# Altium footprint library Ahrist_Library.PcbLib: 172 footprints (part 3 of 11)
Each footprint in its own frame and in the unit in brackets; x right, y up, seen from the top. Pads: shape width x height; smd on the part's side, far side on the other; paste and mask are expansions set on the pad; w line width, h text height; cw(c..) or ccw(c..) is an arc to the next point about the centre after c.
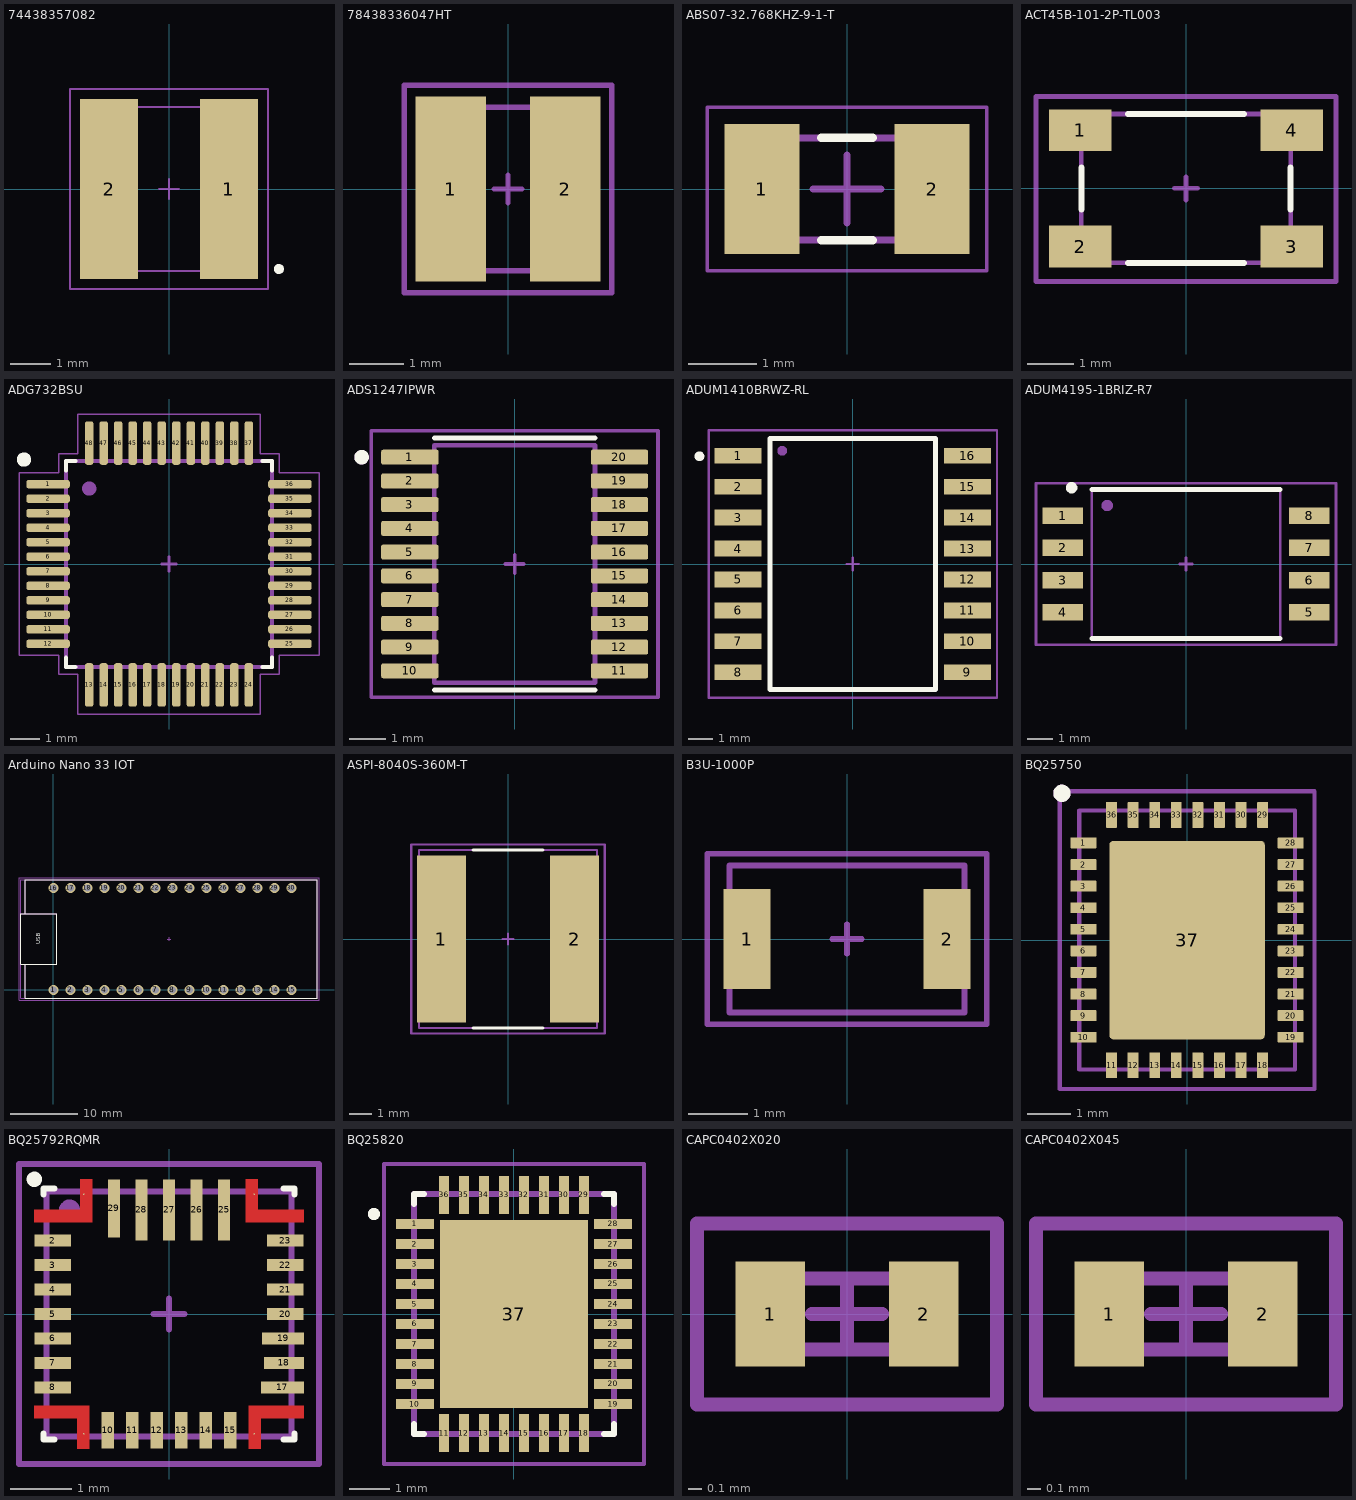
[diagram p2: the footprints below, top view; thin cyan lines are the x and y axes]

## 74438357082 [mm] "8.2 µH Shielded Molded Inductor 2.8 A 86mOhm Max 1616 (4040 Metric)"
pads (2):
  rect 1.45x4.5 smd mask+0.075: 1(1.5,0) 2(-1.5,0)
Top Overlay:
  circle w0.15: c2.75,-2 r0.05
Top Courtyard:
  lines w0.05: -2.475,-2.5 -1.675,-2.5 2.475,-2.5 2.475,-2.05 2.475,2.5 1.675,2.5 -2.475,2.5 -2.475,2.05 -2.475,-2.5
Top Assembly:
  lines w0.05: -2.05,-2.05 -0.55,-2.05 0.2,-2.05 2.05,-2.05 2.05,1.3 2.05,2.05 0.55,2.05 -0.2,2.05 -2.05,2.05 -2.05,-1.3 -2.05,-2.05
Top Designator:
  text ".Designator" at -0.599,-0.115 h1.52
Top Component Outline:
  lines w0.05: -2.05,-2.05 -0.55,-2.05 0.2,-2.05 2.05,-2.05 2.05,1.3 2.05,2.05 0.55,2.05 -0.2,2.05 -2.05,2.05 -2.05,-1.3 -2.05,-2.05
Top Component Center:
  lines w0.05: -0.25,0 0,0 ; 0,-0.25 0,0 ; 0,0.25 0,0 ; 0.25,0 0,0
3D body "Download_WE-MAPI-4030_stp_rev1.stp": height 3.15, standoff 0.05, extent -2.05,-2.05 2.05,2.05

## 78438336047HT [mm] "1212 Shielded Inductor"
pads (2):
  rect 1.3x3.4 smd mask+0.07: 1(-1.05,0) 2(1.05,0)
Top Courtyard:
  lines w0.1: -1.575,1.9 1.9,1.9 1.9,1.55 1.9,-1.9 1.55,-1.9 ; -1.55,1.9 -1.9,1.9 -1.9,-1.55 -1.9,-1.9 1.575,-1.9
Top Assembly:
  lines w0.1: -1.5,-1.5 1.5,-1.5 1.5,1.5 -1.5,1.5 -1.5,-1.5
Top Designator:
  text ".Designator" at -0.59,-0.14 h0.6
Top Component Outline:
  lines w0.1: -1.5,-1.5 1.5,-1.5 1.5,1.5 -1.5,1.5 -1.5,-1.5
Top Component Center:
  lines w0.1: 0,-0.25 0,0 ; 0,0 0,0.25 0,0 ; 0,0 0.25,0 -0.25,0 0,0
3D body "STP_WE-MAIA-3020HT (rev1).stp": height 2, standoff 0, extent -1.5,-1.5 1.5,1.5

## ABS07-32.768KHZ-9-1-T [mm] "32.768 kHz ±10ppm Crystal 9pF 70 kOhms 2-SMD, No Lead"
pads (2):
  rect 1.1x1.9 smd mask+0.075: 1(-1.25,0) 2(1.25,0)
Top Overlay:
  lines w0.127: -0.38,-0.75 0.38,-0.75 ; -0.38,0.75 0.38,0.75
Top Courtyard:
  lines w0.05: -2.05,-1.2 2.05,-1.2 2.05,1.2 -2.05,1.2 -2.05,-1.2
Top Assembly:
  lines w0.1: -1.6,-0.75 1.6,-0.75 1.6,0.75 -1.6,0.75 -1.6,-0.75
Top Component Center:
  lines w0.1: 0,-0.5 0,0 ; 0,0 0,0.5 0,0 ; 0,0 0.5,0 0,0 ; 0,0 -0.5,0 0,0
3D body "step_temp.STEP": height 0.89, standoff 0, extent -1.6,-0.749 1.6,0.749

## ACT45B-101-2P-TL003 [mm] "Common Mode Choke 4.50mm x 3.20mm"
pads (4):
  rect 1.35x0.9 smd mask+0.075: 1(-2.275,1.25) 2(-2.275,-1.25) 3(2.275,-1.25) 4(2.275,1.25)
Top Overlay:
  lines w0.127: -2.25,-0.45 -2.25,0.45 ; -1.25,-1.6 1.25,-1.6 ; -1.25,1.6 1.25,1.6 ; 2.25,-0.45 2.25,0.45
Top Courtyard:
  lines w0.1: -3.225,-2 3.225,-2 3.225,1.975 -3.225,1.975 -3.225,-2
Top Assembly:
  lines w0.1: -2.25,-1.6 2.25,-1.6 2.25,1.6 -2.25,1.6 -2.25,-1.6
Top Designator:
  text ".Designator" at -0.475,-0.088 h0.6
Top Component Outline:
  lines w0.1: -2.25,-1.6 2.25,-1.6 2.25,1.6 -2.25,1.6 -2.25,0.025 -2.25,-1.6
Top Component Center:
  lines w0.1: 0,-0.25 0,0 ; 0,0 0,0.25 0,0 ; 0,0 0.25,0 -0.25,0 0,0
3D body "ACT45B-101-2P-TL003--3DModel-STEP-56544.STEP": height 3, standoff 0, extent -2.25,-1.6 2.25,1.6

## ADG732BSU [mm] "TQFP48"
pads (48):
  rrect50% 1.5x0.28 smd mask+0.05: 1(-4.17,2.75) 2(-4.17,2.25) 3(-4.17,1.75) 4(-4.17,1.25) 5(-4.17,0.75) 6(-4.17,0.25) 7(-4.17,-0.25) 8(-4.17,-0.75) 9(-4.17,-1.25) 10(-4.17,-1.75) 11(-4.17,-2.25) 12(-4.17,-2.75) 25(4.17,-2.75) 26(4.17,-2.25) 27(4.17,-1.75) 28(4.17,-1.25) 29(4.17,-0.75) 30(4.17,-0.25) 31(4.17,0.25) 32(4.17,0.75) 33(4.17,1.25) 34(4.17,1.75) 35(4.17,2.25) 36(4.17,2.75)
  rrect50% 0.28x1.5 smd mask+0.05: 13(-2.75,-4.17) 14(-2.25,-4.17) 15(-1.75,-4.17) 16(-1.25,-4.17) 17(-0.75,-4.17) 18(-0.25,-4.17) 19(0.25,-4.17) 20(0.75,-4.17) 21(1.25,-4.17) 22(1.75,-4.17) 23(2.25,-4.17) 24(2.75,-4.17) 37(2.75,4.17) 38(2.25,4.17) 39(1.75,4.17) 40(1.25,4.17) 41(0.75,4.17) 42(0.25,4.17) 43(-0.25,4.17) 44(-0.75,4.17) 45(-1.25,4.17) 46(-1.75,4.17) 47(-2.25,4.17) 48(-2.75,4.17)
Top Overlay:
  circle w0.25: c-5,3.6 r0.12
  lines w0.127: -3.55,3.226 -3.55,3.55 -3.226,3.55 ; 3.226,-3.55 3.55,-3.55 3.55,-3.226 ; 3.226,3.55 3.55,3.55 3.55,3.226
  lines w0.152: -3.55,-3.226 -3.55,-3.55 -3.226,-3.55
Top Assembly:
  circle w0.25: c-2.75,2.6 r0.12
  lines w0.127: -3.55,-3.55 3.55,-3.55 3.55,3.55 -3.55,3.55 -3.55,-3.55
Top Designator:
  text ".Designator" at -0.54,0.06 h0.6
Top Component Outline:
  lines w0.127: -3.55,-3.55 3.55,-3.55 3.55,3.55 -3.55,3.55 -3.55,-3.55
Mechanical 15:
  lines w0.05: -5.17,-3.14 -3.8,-3.14 -3.8,-3.8 -3.14,-3.8 -3.14,-5.17 3.14,-5.17 3.14,-3.8 3.8,-3.8 3.8,-3.14 5.17,-3.14 5.17,3.14 3.8,3.14 3.8,3.8 3.14,3.8 3.14,5.17 -3.14,5.17 -3.14,3.8 -3.8,3.8 -3.8,3.14 -5.17,3.14 -5.17,-3.14
Top Component Center:
  lines w0.1: 0,-0.25 0,0 ; 0,0 0,0.25 0,0 ; 0,0 0.25,0 -0.25,0 0,0
3D body "step_temp.STEP": height 1.2, standoff 0, extent -4.5,-4.5 4.5,4.5

## ADS1247IPWR [mm] "TSSOP-20"
pads (20):
  rrect25% 1.57x0.41 smd mask+0.05: 1(-2.87,2.925) 2(-2.87,2.275) 3(-2.87,1.625) 4(-2.87,0.975) 5(-2.87,0.325) 6(-2.87,-0.325) 7(-2.87,-0.975) 8(-2.87,-1.625) 9(-2.87,-2.275) 10(-2.87,-2.925) 11(2.87,-2.925) 12(2.87,-2.275) 13(2.87,-1.625) 14(2.87,-0.975) 15(2.87,-0.325) 16(2.87,0.325) 17(2.87,0.975) 18(2.87,1.625) 19(2.87,2.275) 20(2.87,2.925)
Top Overlay:
  circle w0.2: c-4.19,2.925 r0.1
  lines w0.127: -2.2,-3.45 2.2,-3.45 ; -2.2,3.45 2.2,3.45
Top Courtyard:
  lines w0.1: -3.925,-3.65 3.925,-3.65 3.925,3.65 -3.925,3.65 -3.925,-3.65
Top Assembly:
  circle w0.2: c-4.19,2.925 r0.1
  lines w0.127: -2.2,-3.25 -2.2,3.25 2.2,3.25 2.2,-3.25 -2.2,-3.25
Top Designator:
  text ".Designator" at -0.5,-0.138 h0.6
Top Component Outline:
  lines w0.127: -2.2,-3.25 -2.2,3.25 2.2,3.25 2.2,-3.25 -2.2,-3.25
Top Component Center:
  lines w0.1: 0,-0.25 0,0 ; 0,0 0,0.25 0,0 ; 0,0 0.25,0 -0.25,0 0,0
3D body "ADS1247IPWR.STEP": height 1.2, standoff 0, extent -3.2,-3.25 3.2,3.25

## ADUM1410BRWZ-RL [mm] "Digital Isolators QUAD-CHANNEL DIGITAL ISOLATORS"
pads (16):
  rect 1.925x0.65 smd: 1(-4.712,4.445) 2(-4.712,3.175) 3(-4.712,1.905) 4(-4.712,0.635) 5(-4.712,-0.635) 6(-4.712,-1.905) 7(-4.712,-3.175) 8(-4.712,-4.445) 9(4.712,-4.445) 10(4.712,-3.175) 11(4.712,-1.905) 12(4.712,-0.635) 13(4.712,0.635) 14(4.712,1.905) 15(4.712,3.175) 16(4.712,4.445)
Top Overlay:
  circle w0.2: c-6.3,4.425 r0.1
  lines w0.2: -3.4,-5.15 3.4,-5.15 3.4,5.15 -3.4,5.15 -3.4,-5.15
Top Courtyard:
  lines w0.1: -5.925,-5.175 -5.925,5.5 -4.975,5.5 5.925,5.5 5.925,-4.625 ; -5.925,-2.925 -5.925,-3.025 -5.925,-5.5 -4.975,-5.5 5.925,-5.5 5.925,-4.4
Top Assembly:
  circle w0.2: c-2.9,4.65 r0.1
  lines w0.1: -3.4,-5.15 3.4,-5.15 3.4,5.15 -3.4,5.15 -3.4,-5.125
Top Designator:
  text ".Designator" at -0.64,-0.065 h0.6
Top Component Outline:
  lines w0.1: -3.4,-5.15 3.4,-5.15 3.4,5.15 -3.4,5.15 -3.4,-5.125
Top Component Center:
  lines w0.1: 0,-0.25 0,0 ; 0,0 -0.25,0 0.25,0 0,0 ; 0,0 0,0.25 0,0
3D body "ADUM1410BRWZ-RL.stp": height 2.68, standoff 0.02, extent -5.325,-5.25 5.325,5.25

## ADUM4195-1BRIZ-R7 [mm] "Isolator, Error Amplifier IC 8-SOIC-IC"
pads (8):
  rect 1.6x0.65 smd: 1(-4.85,1.905) 2(-4.85,0.635) 3(-4.85,-0.635) 4(-4.85,-1.905) 5(4.85,-1.905) 6(4.85,-0.635) 7(4.85,0.635) 8(4.85,1.905)
Top Overlay:
  circle w0.25: c-4.5,3 r0.1
  lines w0.2: -3.7,-2.925 3.7,-2.925 ; -3.7,2.925 3.7,2.925
Top Courtyard:
  lines w0.1: -5.9,-2.375 -5.9,3.175 -3.925,3.175 ; -5.9,-2.05 -5.9,-3.175 3.925,-3.175 5.9,-3.175 5.9,-2.05 ; -4.625,3.175 5.9,3.175 5.9,-2.5
Top Assembly:
  circle w0.25: c-3.1,2.3 r0.1
  lines w0.1: -3.7,-2.9 3.7,-2.9 3.7,2.9 -3.7,2.9 -3.7,-2.9
Top Designator:
  text ".Designator" at -1.14,-0.14 h0.6
Top Component Outline:
  lines w0.1: -3.7,-2.9 -3.7,2.9 3.7,2.9 3.7,-2.9 -3.7,-2.9
Top Component Center:
  lines w0.1: 0,-0.25 0,0 ; 0,0 0,0.25 0,0 ; 0,0 0.25,0 -0.25,0 0,0
3D body "ADUM4195-1BRIZ.stp": height 2.65, standoff 0, extent -5.155,-2.925 5.155,2.925

## Arduino Nano 33 IOT [mm]
pads (30):
  round 1.508 hole 1: 1(0,0) 2(2.54,0) 3(5.08,0) 4(7.62,0) 5(10.16,0) 6(12.7,0) 7(15.24,0) 8(17.78,0) 9(20.32,0) 10(22.86,0) 11(25.4,0) 12(27.94,0) 13(30.48,0) 14(33.02,0) 15(35.56,0) 16(0,15.23) 17(2.54,15.24) 18(5.08,15.24) 19(7.62,15.24) 20(10.16,15.24) 21(12.7,15.24) 22(15.24,15.24) 23(17.78,15.24) 24(20.32,15.24) 25(22.86,15.24) 26(25.4,15.24) 27(27.94,15.24) 28(30.48,15.24) 29(33.02,15.24) 30(35.56,15.24)
Top Overlay:
  lines w0.1: -4.2,11.375 -4.2,16.5 ; -4.175,3.85 -4.2,3.85 -4.2,-1.275 ; -3.675,-1.275 -4.2,-1.275 ; -3.375,16.5 -4.2,16.5 ; -4.2,-1.275 39.4,-1.275 39.4,-1.175 39.4,16.5 -4.2,16.5 ; -4.9,3.862 0.5,3.862 0.5,11.362 -4.9,11.362 -4.9,3.862
  text "USB" at -1.96,6.81 h0.6
Top Courtyard:
  lines w0.1: -5.15,-1.525 39.675,-1.525 39.675,16.75 -5.15,16.75 -5.15,9.575 -5.15,-1.525
Top Assembly:
  lines w0.1: -4.2,11.375 -4.2,16.5 ; -4.175,3.85 -4.2,3.85 -4.2,-1.275 ; -3.675,-1.275 -4.2,-1.275 ; -3.375,16.5 -4.2,16.5 ; -4.9,3.862 0.5,3.862 ; -4.9,3.862 -4.9,11.362 ; -4.9,3.862 0.5,3.862 ; -4.9,3.862 -4.9,11.362 ; -4.9,3.862 0.5,3.862 ; -4.9,3.862 -4.9,11.362 ; -4.9,11.362 0.5,11.362 ; -4.9,11.362 0.5,11.362 ; -4.9,11.362 0.5,11.362 ; -4.2,-1.275 39.4,-1.275 39.4,-1.175 39.4,16.5 -4.2,16.5 ; 0.5,3.862 0.5,11.362 ; 0.5,3.862 0.5,11.362 ; 0.5,3.862 0.5,11.362
  text ".Designator" at 13.835,8.16 h0.6
  text "USB" at -1.96,6.81 h0.6
Top Designator:
  text ".Designator" at 2.51,-0.289 h1.52
Top Component Outline:
  lines w0.1: -4.891,-1.26 39.401,-1.26 39.401,16.501 -4.89,16.501 -4.89,-1.259
Top Component Center:
  lines w0.1: 17.013,7.612 17.513,7.612 ; 17.263,7.362 17.263,7.862
3D body "PPTC151LFBN-RC--3DModel-STEP-269445.STEP": height 8.51, standoff -3.2, extent -1.5,-1.29 37.108,1.25
3D body "PPTC151LFBN-RC--3DModel-STEP-269445.STEP": height 8.51, standoff -3.2, extent -1.5,13.96 37.108,16.5
3D body "Nano33BLE.step": height 15.34, standoff 2.35, extent -4.89,-1.26 39.41,16.5

## ASPI-8040S-360M-T [mm] "36 µH Shielded Drum Core Inductor"
pads (2):
  rect 2.2x7.5 smd mask+0.05: 1(-3,0) 2(3,0)
Top Overlay:
  lines w0.127: -1.58,-4 1.58,-4 ; -1.58,4 1.58,4
Top Courtyard:
  lines w0.1: -4.35,-4.25 4.35,-4.25 4.35,4.25 -4.35,4.25 -4.35,-4.25
Top Assembly:
  lines w0.1: -4,-4 4,-4 4,4 -4,4 -4,-4
Top Designator:
  text ".Designator" at -0.575,-0.087 h1
Top Component Center:
  lines w0.1: 0,-0.25 0,0 ; 0,0 -0.25,0 0.25,0 0,0 ; 0,0 0,0.25 0,0
3D body "step_temp.STEP": height 4, standoff 0, extent -4,-4 4,4

## B3U-1000P [mm] "Push Button"
pads (2):
  rect 0.8x1.7 smd mask+0.075: 1(-1.7,0) 2(1.7,0)
Top Courtyard:
  lines w0.1: -0.975,-1.45 2.375,-1.45 2.375,0.075 2.375,1.025 2.375,1.45 0.95,1.45 -2.375,1.45 -2.375,-0.075 -2.375,-1.025 -2.375,-1.45 -0.95,-1.45
Top Assembly:
  lines w0.1: -2,-1.25 -0.25,-1.25 2,-1.25 2,1.25 -2,1.25 -2,-1.25
Top Designator:
  text ".Designator" at -0.5,-0.138 h0.6
Top Component Outline:
  lines w0.1: -2,-1.25 -0.25,-1.25 2,-1.25 2,1.25 -2,1.25 -2,-1.25
Top Component Center:
  lines w0.1: 0,-0.25 0,0 ; 0,0 0,0.25 0,0 ; 0,0 0.25,0 -0.25,0 0,0
3D body "b3u-1000p.stp": height 1.6, standoff 0, extent -2,-1.25 2,1.25

## BQ25750 [mm] "VQFN36"
pads (37):
  rrect10% 0.6x0.25 smd mask+0.05: 1(-2.4,2.25) 2(-2.4,1.75) 3(-2.4,1.25) 4(-2.4,0.75) 5(-2.4,0.25) 6(-2.4,-0.25) 7(-2.4,-0.75) 8(-2.4,-1.25) 9(-2.4,-1.75) 10(-2.4,-2.25) 19(2.4,-2.25) 20(2.4,-1.75) 21(2.4,-1.25) 22(2.4,-0.75) 23(2.4,-0.25) 24(2.4,0.25) 25(2.4,0.75) 26(2.4,1.25) 27(2.4,1.75) 28(2.4,2.25)
  rrect10% 0.25x0.6 smd mask+0.05: 11(-1.75,-2.9) 12(-1.25,-2.9) 13(-0.75,-2.9) 14(-0.25,-2.9) 15(0.25,-2.9) 16(0.75,-2.9) 17(1.25,-2.9) 18(1.75,-2.9) 29(1.75,2.9) 30(1.25,2.9) 31(0.75,2.9) 32(0.25,2.9) 33(-0.25,2.9) 34(-0.75,2.9) 35(-1.25,2.9) 36(-1.75,2.9)
  rrect5% 3.6x4.6 smd mask+0.05: 37(0,0)
Top Overlay:
  circle w0.2: c-2.9,3.4 r0.1
Mechanical 1:
  lines w0.05: -1.6,-1.075 -1.5,-1.075 ; -1.6,0 -1.5,0 ; -1.6,1.075 -1.5,1.075 ; -1.5,-0.975 -1.5,-1.075 ; -1.5,-0.1 -1.5,0 ; -1.5,0.975 -1.5,1.075 ; -1.4,-1.075 -1.5,-1.075 ; -1.4,0 -1.5,0 ; -1.4,1.075 -1.5,1.075 ; -0.7,-1.075 -0.6,-1.075 ; -0.7,0 -0.6,0 ; -0.7,1.075 -0.6,1.075 ; -0.675,-2 -0.575,-2 ; -0.675,2 -0.575,2 ; -0.6,-0.975 -0.6,-1.075 ; -0.6,-0.1 -0.6,0 ; -0.6,0.975 -0.6,1.075 ; -0.575,-2.1 -0.575,-2 ; -0.575,2.1 -0.575,2 ; -0.5,-1.075 -0.6,-1.075 ; -0.5,0 -0.6,0 ; -0.5,1.075 -0.6,1.075 ; -0.475,-2 -0.575,-2 ; -0.475,2 -0.575,2 ; 0.475,-2 0.575,-2 ; 0.475,2 0.575,2 ; 0.5,-1.075 0.6,-1.075 ; 0.5,0 0.6,0 ; 0.5,1.075 0.6,1.075 ; 0.575,-2.1 0.575,-2 ; 0.575,2.1 0.575,2 ; 0.6,-0.975 0.6,-1.075 ; 0.6,-0.1 0.6,0 ; 0.6,0.975 0.6,1.075 ; 0.675,-2 0.575,-2 ; 0.675,2 0.575,2 ; 0.7,-1.075 0.6,-1.075 ; 0.7,0 0.6,0 ; 0.7,1.075 0.6,1.075 ; 1.4,-1.075 1.5,-1.075 ; 1.4,0 1.5,0 ; 1.4,1.075 1.5,1.075 ; 1.5,-0.975 1.5,-1.075 ; 1.5,-0.1 1.5,0 ; 1.5,0.975 1.5,1.075 ; 1.6,-1.075 1.5,-1.075 ; 1.6,0 1.5,0 ; 1.6,1.075 1.5,1.075 ; -1.5,-1.075 -1.5,-1.175 -1.5,-1.075 ; -1.5,0 -1.5,0.1 -1.5,0 ; -1.5,1.075 -1.5,1.175 -1.5,1.075 ; -0.6,-1.075 -0.6,-1.175 -0.6,-1.075 ; -0.6,0 -0.6,0.1 -0.6,0 ; -0.6,1.075 -0.6,1.175 -0.6,1.075 ; -0.575,-2 -0.575,-1.9 -0.575,-2 ; -0.575,2 -0.575,1.9 -0.575,2 ; 0.575,-2 0.575,-1.9 0.575,-2 ; 0.575,2 0.575,1.9 0.575,2 ; 0.6,-1.075 0.6,-1.175 0.6,-1.075 ; 0.6,0 0.6,0.1 0.6,0 ; 0.6,1.075 0.6,1.175 0.6,1.075 ; 1.5,-1.075 1.5,-1.175 1.5,-1.075 ; 1.5,0 1.5,0.1 1.5,0 ; 1.5,1.075 1.5,1.175 1.5,1.075
  text "Vias" at -0.5,0.4 h0.3
Top Courtyard:
  lines w0.1: -2.95,-3.45 -2.95,-2.2 -2.95,3.45 2.95,3.45 2.95,-3.45 -2.95,-3.45
Top Assembly:
  circle w0.2: c-2.9,3.4 r0.1
  lines w0.1: -2.5,-3 -2.5,3 2.5,3 2.5,-3 -2.5,-3
Top Designator:
  text ".Designator" at -1.025,-0.214 h1.52
Top Component Outline:
  lines w0.1: -2.5,-3 -2.5,3 2.5,3 2.5,-3 -2.5,-3
Top Component Center:
  lines w0.05: 0,0.25 0,-0.25 0,0 ; 0,0 0.25,0 -0.25,0 0,0
3D body "BQ25750RRVR--3DModel-STEP-56544.STEP": height 1, standoff 0, extent -2.5,-3 2.5,3

## BQ25792RQMR [mm] "29-VFQFN"
pads (29):
  round 0.025 smd mask+0.045: 1(-1.396,1.96) 9(-1.396,-1.96) 16(1.396,-1.96) 24(1.396,1.96)
  rect 0.6x0.2 smd mask+0.045: 2(-1.9,1.2) 3(-1.9,0.8) 4(-1.9,0.4) 5(-1.9,0) 6(-1.9,-0.4) 7(-1.9,-0.8) 8(-1.9,-1.2) 20(1.9,0) 21(1.9,0.4) 22(1.9,0.8) 23(1.9,1.2)
  rect 0.2x0.6 smd mask+0.045: 10(-1,-1.9) 11(-0.6,-1.9) 12(-0.2,-1.9) 13(0.2,-1.9) 14(0.6,-1.9) 15(1,-1.9)
  rect 0.7x0.2 smd mask+0.045: 17(1.853,-1.2)
  rect 0.65x0.2 smd mask+0.045: 18(1.877,-0.8)
  rect 0.68x0.2 smd mask+0.045: 19(1.863,-0.4)
  rect 0.2x1 smd mask+0.045: 25(0.9,1.7) 26(0.45,1.7) 27(0,1.7) 28(-0.45,1.7)
  rect 0.2x0.95 smd mask+0.045: 29(-0.9,1.725)
Top Layer:
  region: 1.45,2.2 1.45,1.7 2.2,1.7 2.2,1.5 1.25,1.5 1.25,2.2
  region: -1.45,2.2 -1.45,1.7 -2.2,1.7 -2.2,1.5 -1.25,1.5 -1.25,2.2
  region: 1.5,-2.2 1.5,-1.7 2.2,-1.7 2.2,-1.5 1.3,-1.5 1.3,-2.2
  region: -1.5,-2.2 -1.5,-1.7 -2.2,-1.7 -2.2,-1.5 -1.3,-1.5 -1.3,-2.2
Top Overlay:
  circle w0.15: c-2.2,2.2 r0.05
  lines w0.1: -2.05,-1.95 -2.05,-2.05 -1.875,-2.05 ; -2.05,1.95 -2.05,2.05 -1.875,2.05 ; 1.875,-2.05 2.05,-2.05 2.05,-1.95 ; 1.875,2.05 2.05,2.05 2.05,1.95
Top Courtyard:
  lines w0.1: -2.45,-2.45 -2.45,-1.6 -2.45,2.45 2.45,2.45 2.45,-2.45 -2.45,-2.45
Top Assembly:
  circle w0.2: c-1.625,1.7 r0.07
  lines w0.1: -2,-2 -1.825,-2 2,-2 2,2 -2,2 -2,-2
Top Designator:
  text ".Designator" at -1,-0.312 h1
Top Component Outline:
  lines w0.1: -2,-2 -1.825,-2 2,-2 2,2 -2,2 -2,-2
Top Component Center:
  lines w0.1: 0,-0.25 0,0 ; 0,0 -0.25,0 0.25,0 0,0 ; 0,0 0,0.25 0,0
3D body "BQ25792RQMR--3DModel-STEP-510211.STEP": height 1, standoff 0, extent -2,-2 2,2

## BQ25820 [mm]
pads (37):
  rect 0.956x0.242 smd paste+0 mask+0.075: 1(-2.478,2.25) 2(-2.478,1.75) 3(-2.478,1.25) 4(-2.478,0.75) 5(-2.478,0.25) 6(-2.478,-0.25) 7(-2.478,-0.75) 8(-2.478,-1.25) 9(-2.478,-1.75) 10(-2.478,-2.25) 19(2.478,-2.25) 20(2.478,-1.75) 21(2.478,-1.25) 22(2.478,-0.75) 23(2.478,-0.25) 24(2.478,0.25) 25(2.478,0.75) 26(2.478,1.25) 27(2.478,1.75) 28(2.478,2.25)
  rect 0.242x0.956 smd paste+0 mask+0.075: 11(-1.75,-2.978) 12(-1.25,-2.978) 13(-0.75,-2.978) 14(-0.25,-2.978) 15(0.25,-2.978) 16(0.75,-2.978) 17(1.25,-2.978) 18(1.75,-2.978) 29(1.75,2.978) 30(1.25,2.978) 31(0.75,2.978) 32(0.25,2.978) 33(-0.25,2.978) 34(-0.75,2.978) 35(-1.25,2.978) 36(-1.75,2.978)
  rect 3.7x4.7 smd paste-1000 mask+0.075: 37(0,0)
Top Overlay:
  circle w0.2: c-3.5,2.5 r0.05
  lines w0.15: -2.5,-2.75 -2.5,-3 -2.25,-3 ; -2.5,2.75 -2.5,3 -2.25,3 ; 2.25,-3 2.5,-3 2.5,-2.75 ; 2.25,3 2.5,3 2.5,2.75
Top Paste:
  rectangle: -1.271,-1.771 1.271,-0.289
  rectangle: -1.271,0.289 1.271,1.771
Top Courtyard:
  lines w0.1: -3.25,-3.75 -3.25,3.75 3.25,3.75 3.25,-3.75 -1.75,-3.75 -3.25,-3.75
Top Assembly:
  lines w0.15: -2.5,-3 -2.5,3 2.5,3 2.5,-3 -2.5,-3
  text ".Designator" at -1.15,0.017 h0.5
Top Component Center:
  lines w0.1: -0.4,0 0,0 ; 0,0 0,0.4 0,0 ; 0,0 0.4,0 0,0 ; 0,0 0,-0.4 0,0
3D body "IC_BQ25751RRVT_VQFN36.STEP": height 1, standoff 0, extent -2.5,-3 2.5,3

## CAPC0402X020 [mm] "Chip Capacitor, 2-Leads, Body 1.00x0.50mm, IPC Medium Density"
pads (2):
  rect 0.5x0.75 smd mask+0.075: 1(-0.55,0) 2(0.55,0)
Top Courtyard:
  lines w0.1: -1.075,-0.65 -1.075,0.65 1.075,0.65 1.075,-0.65 -1.075,-0.65
Top Assembly:
  lines w0.1: -0.508,-0.254 0.508,-0.254 0.508,0.254 -0.508,0.254 -0.508,-0.254
Top Designator:
  text ".Designator" at -0.438,-0.084 h0.3
Top Component Center:
  lines w0.1: 0,-0.25 0,0 ; 0,0 0,0.25 0,0 ; 0,0 0.25,0 0,0 ; 0,0 -0.25,0 0,0
3D body "C0402_020.step": height 0.2, standoff 0, extent -0.5,-0.25 0.5,0.25

## CAPC0402X045 [mm]
pads (2):
  rect 0.5x0.75 smd mask+0.075: 1(-0.55,0) 2(0.55,0)
Top Courtyard:
  lines w0.1: -1.075,-0.65 -1.075,0.65 1.075,0.65 1.075,-0.65 -1.075,-0.65
Top Assembly:
  lines w0.1: -0.508,-0.254 0.508,-0.254 0.508,0.254 -0.508,0.254 -0.508,-0.254
Top Designator:
  text ".Designator" at -0.438,-0.084 h0.3
Top Component Center:
  lines w0.1: -0.25,0 0,0 ; 0,-0.25 0,0 ; 0,0.25 0,0 ; 0.25,0 0,0
3D body "C0402_045.step": height 0.45, standoff 0, extent -0.5,-0.25 0.5,0.25